# Altium schematic symbol library 0_5OHM.SCHLIB: 1 symbol
Pins are listed as number, name and electrical type; pins without a type are passive.

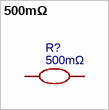
[diagram p0: symbol 500mΩ]

## 500mΩ
designator R?
Manufacturer: SEI(Stackpole Electronics Inc.); Manufacturer Part: CSRN2512FKR500; nameAlias: Value; Contributor: LCSC; Supplier: LCSC; Supplier Part: C346810; JLCPCB Part Class: Extended Part; spicePre: R; spiceSymbolName: CSRN2512FKR500
footprint R2512
pins: 1, 2